# EAGLE library part FADER_STEREO (library bao18)
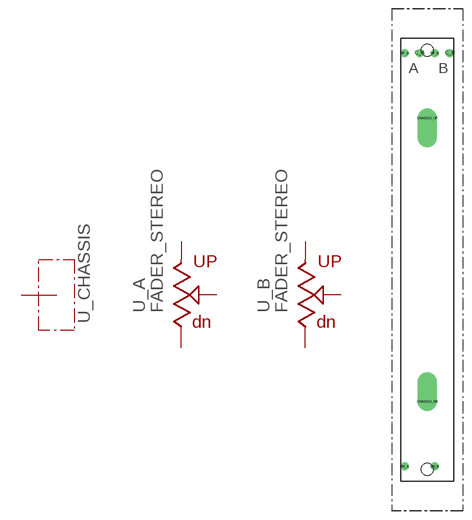
[diagram p10: symbol with the pads of FADER_75MM; footprint FADER_75MM]

Designator prefix -; gates _A=FADER _B=FADER _CHASSIS=CHASSIS

## FADER_STEREO_75MM_A50K (NHPREF: 82; POPULATE: TRUE; VALUE: A50k)  [FADER_75MM]
C_A  _A:C  pas
C_B  _B:C  pas
CHASSIS_DN  _CHASSIS:CHASSIS  pas
CHASSIS_UP  _CHASSIS:CHASSIS  pas
DN_A  _A:DN  pas
DN_B  _B:DN  pas
UP_A  _A:UP  pas
UP_B  _B:UP  pas

## Footprint FADER_75MM (pad centres in mm)
drill 0.8: C_A -1.27,35.001; C_B 3.81,35.001; DN_A -3.81,-35.001; DN_B 1.27,-35.001; UP_A -3.81,35.001; UP_B 1.27,35.001
drill 2.286 offset: CHASSIS_DN 0,-24; CHASSIS_UP 0,24